# Altium schematic symbol library Connector_1x10.SchLib: 1 symbol
Pins are listed as number, name and electrical type; pins without a type are passive.

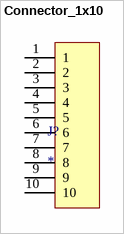
[diagram p0: symbol Connector_1x10]

## Connector_1x10
designator J?
pins: 1, 2, 3, 4, 5, 6, 7, 8, 9, 10